# Altium footprint library uln2803Soic.PcbLib: 3 footprints
Each footprint in its own frame and in the unit in brackets; x right, y up, seen from the top. Pads: shape width x height; smd on the part's side, far side on the other; paste and mask are expansions set on the pad; w line width, h text height; cw(c..) or ccw(c..) is an arc to the next point about the centre after c.
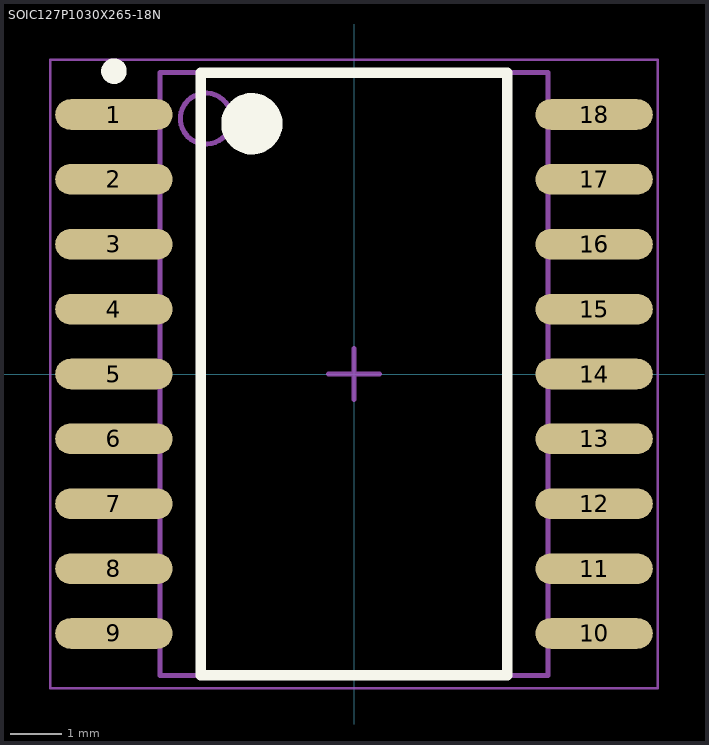
[diagram p0: the footprints below, top view; thin cyan lines are the x and y axes]

## PCBComponent_1 - duplicate [mm]

## PCBComponent_1 - duplicate1 [mm]

## SOIC127P1030X265-18N [mm] "SOIC, 18-Leads, Body 11.55x7.50mm, Pitch 1.27mm, IPC Medium Density"
height 2.65
pads (18):
  oval 2.3x0.6 smd: 1(-4.7,5.08) 2(-4.7,3.81) 3(-4.7,2.54) 4(-4.7,1.27) 5(-4.7,0) 6(-4.7,-1.27) 7(-4.7,-2.54) 8(-4.7,-3.81) 9(-4.7,-5.08) 10(4.7,-5.08) 11(4.7,-3.81) 12(4.7,-2.54) 13(4.7,-1.27) 14(4.7,0) 15(4.7,1.27) 16(4.7,2.54) 17(4.7,3.81) 18(4.7,5.08)
Top Overlay:
  circle w0.6: c-2,4.9 r0.3
  circle w0.25: c-4.7,5.93 r0.125
  lines w0.2: -3,-5.9 3,-5.9 3,5.9 -3,5.9 -3,-5.9
Mechanical 13:
  circle w0.1: c-2.9,5 r0.5
  lines w0.1: -3.8,-5.9 3.8,-5.9 3.8,5.9 -3.8,5.9 -3.8,-5.9
Mechanical 15:
  lines w0.05: -5.95,-6.15 5.95,-6.15 5.95,6.15 -5.95,6.15 -5.95,-6.15
  lines w0.1: -0.5,0 0.5,0 ; 0,-0.5 0,0.5
3D body: height 2.65, standoff 0.1, extent -3.8,-5.9 3.8,5.9